# Altium integrated library WL-SWTC_rev15a.intlib: 5 symbols
Pins are listed as number, name and electrical type; pins without a type are passive.

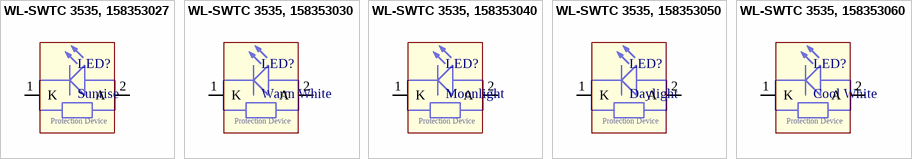
[diagram p0: symbols WL-SWTC 3535, 158353027 to WL-SWTC 3535, 158353060]

## WL-SWTC 3535, 158353027
designator LED?, comment Sunrise
SMD White Top View Ceramic  LED, WL-SWTC, Sunrise; PartNo: 158353027; Manufacturer: Würth Elektronik eiSos GmbH; Forward voltage (Typ): 3.2V; Continuous Forward Current: 700 mA; Reverse Voltage: 5V; Emitting Color: Sunrise; ComponentLink1Description: Manufacturer; ComponentLink1URL: http://www.we-online.de; Created by: Christin Otto; Created Date: Oct 2014; ComponentLink2Description: Datasheet; ComponentLink2URL: http://katalog.we-online.de/kataloge/eisos/media/pdf/158353027.pdf
footprint WL-SWTC 3535 (SMD-LED, 2Pin , Body 3.45x3.45mm)
pins: 1 K, 2 A
text: Protection Device

## WL-SWTC 3535, 158353030
designator LED?, comment Warm White
SMD White Top View Ceramic  LED, WL-SWTC, Warm White; PartNo: 158353030; Manufacturer: Würth Elektronik eiSos GmbH; Forward voltage (Typ): 3.2V; Continuous Forward Current: 700 mA; Reverse Voltage: 5V; Emitting Color: Warm White; ComponentLink1Description: Manufacturer; ComponentLink1URL: http://www.we-online.de; Created by: Christin Otto; Created Date: Oct 2014; ComponentLink2Description: Datasheet; ComponentLink2URL: http://katalog.we-online.de/kataloge/eisos/media/pdf/158353030.pdf
footprint WL-SWTC 3535 (SMD-LED, 2Pin , Body 3.45x3.45mm)
pins: 1 K, 2 A
text: Protection Device

## WL-SWTC 3535, 158353040
designator LED?, comment Moonlight
SMD White Top View Ceramic  LED, WL-SWTC, Moonlight; PartNo: 158353040; Manufacturer: Würth Elektronik eiSos GmbH; Forward voltage (Typ): 3.2V; Continuous Forward Current: 700 mA; Reverse Voltage: 5V; Emitting Color: Moonlight; ComponentLink1Description: Manufacturer; ComponentLink1URL: http://www.we-online.de; Created by: Christin Otto; Created Date: Oct 2014; ComponentLink2Description: Datasheet; ComponentLink2URL: http://katalog.we-online.de/kataloge/eisos/media/pdf/158353040.pdf
footprint WL-SWTC 3535 (SMD-LED, 2Pin , Body 3.45x3.45mm)
pins: 1 K, 2 A
text: Protection Device

## WL-SWTC 3535, 158353050
designator LED?, comment Daylight
SMD White Top View Ceramic  LED, WL-SWTC, Daylight; PartNo: 158353050; Manufacturer: Würth Elektronik eiSos GmbH; Forward voltage (Typ): 3.2V; Continuous Forward Current: 700 mA; Reverse Voltage: 5V; Emitting Color: Daylight; ComponentLink1Description: Manufacturer; ComponentLink1URL: http://www.we-online.de; Created by: Christin Otto; Created Date: Oct 2014; ComponentLink2Description: Datasheet; ComponentLink2URL: http://katalog.we-online.de/kataloge/eisos/media/pdf/158353050.pdf
footprint WL-SWTC 3535 (SMD-LED, 2Pin , Body 3.45x3.45mm)
pins: 1 K, 2 A
text: Protection Device

## WL-SWTC 3535, 158353060
designator LED?, comment Cool White
SMD White Top View Ceramic  LED, WL-SWTC, Cool White; PartNo: 158353060; Manufacturer: Würth Elektronik eiSos GmbH; Forward voltage (Typ): 3.2V; Continuous Forward Current: 700 mA; Reverse Voltage: 5V; Emitting Color: Cool White; ComponentLink1Description: Manufacturer; ComponentLink1URL: http://www.we-online.de; Created by: Christin Otto; Created Date: Oct 2014; ComponentLink2Description: Datasheet; ComponentLink2URL: http://katalog.we-online.de/kataloge/eisos/media/pdf/158353060.pdf
footprint WL-SWTC 3535 (SMD-LED, 2Pin , Body 3.45x3.45mm)
pins: 1 K, 2 A
text: Protection Device